# Altium schematic symbol library Potentiometers.SchLib: 13 symbols
Pins are listed as number, name and electrical type; pins without a type are passive.

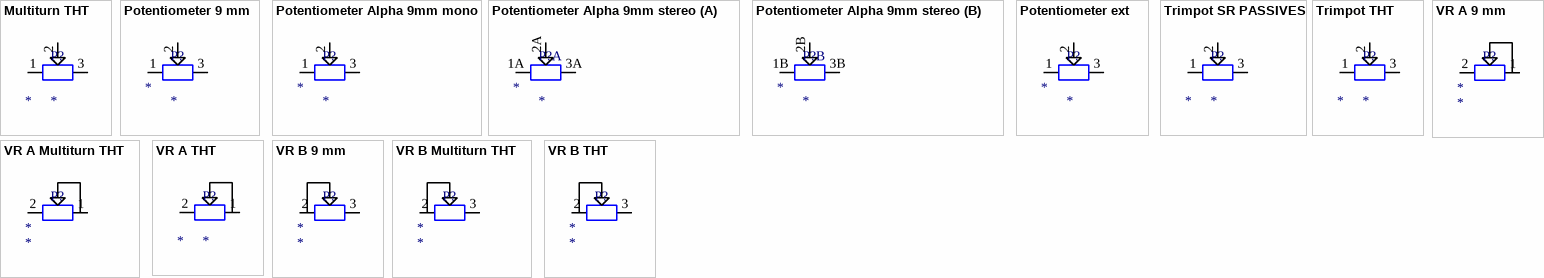
[diagram p0: symbols Multiturn THT to VR B THT]

## Multiturn THT
designator P?, comment Trim  (value not drawn)
PCB Mount Multiturn Trimmer Potentiometer Top Adjustable; Taper: *; Package Type: THT; Type: Potentiometer; Value: *; Parameter: *
footprint Multiturn Potentiometer inline (PCB mount inline multiturn trimmer pot with parameter label)
footprint Multiturn Potentiometer Offset (PCB mount offset multiturn trimmer pot with parameter label)
pins: 1, 2, 3

## Potentiometer 9 mm
designator P?, comment Mono Pot  (value not drawn)
PCB Mount 9mm Mono Potentiometer THT; Taper: *; Package Type: THT; Type: Potentiometer; Value: *; Parameter: *
footprint Alpha_9mm_mono
footprint 9 mm PCB Potentiometer (Generic 9 mm shaft potentiometer PCB mount)
pins: 1, 2, 3

## Potentiometer Alpha 9mm mono
designator P?, comment Mono Pot  (value not drawn)
PCB Mount Alpha 9mm Mono Potentiometer THT; Taper: *; Package Type: THT; Type: Potentiometer; Value: *; Parameter: *
footprint Alpha_9mm_mono
footprint Alpha 9mm mono (Alpha 9 mm mono potentiometer)
pins: 1, 2, 3

## Potentiometer Alpha 9mm stereo
designator P?, comment Stereo Pot  (value not drawn)
PCB Mount Alpha 9mm Stereo Potentiometer THT; Taper: *; Package Type: THT; Type: Potentiometer; Value: *; Parameter: *
footprint Alpha 9mm stereo (Alpha 9 mm stereo potentiometer)
part A pins: 1A, 2A, 3A
part B pins: 1B, 2B, 3B

## Potentiometer ext
designator P?, comment Ext Pot  (value not drawn)
External Potentiometer Pinout; Taper: *; Package Type: THT; Type: Potentiometer; Parameter: *; Value: *
footprint External Potentiometer (Pads for output potentiometers)
pins: 1, 2, 3

## Trimpot SR PASSIVES
designator P?, comment Trim  (value not drawn)
SR PASSIVES PCB Mount Trimmer Potentiometer Top Adjustable; Taper: *; Package Type: THT; Type: Potentiometer; Parameter: *; Value: *
footprint SR PASSIVES Trimmer Pot (SR PASSIVES PCB mount trimmer pot with parameter label)
pins: 1, 2, 3

## Trimpot THT
designator P?, comment Trim  (value not drawn)
PCB Mount Trimmer Potentiometer Top Adjustable; Taper: *; Package Type: THT; Type: Potentiometer; Value: *; Parameter: *
footprint THT Trimmer Pot (PCB Mount Trimmer Potentiometer Top Adjustable)
pins: 1, 2, 3

## VR A 9 mm
designator P?, comment VR  (value not drawn)
PCB Mount 9mm Mono Potentiometer THT as Variable Resistor Clockwise Increase; Taper: *; Package Type: THT; Type: Potentiometer; Parameter: *; Value: *
footprint 9 mm PCB Potentiometer (Generic 9 mm shaft potentiometer PCB mount)
footprint Multiturn Potentiometer Offset (PCB mount offset multiturn trimmer pot with parameter label)
pins: 1, 2

## VR A Multiturn THT
designator P?, comment VR  (value not drawn)
PCB Mount Multiturn Trimmer Potentiometer Top Adjustable as Variable Resistor Clockwise Increase; Taper: *; Package Type: THT; Type: Potentiometer; Parameter: *; Value: *
footprint Multiturn Potentiometer inline (PCB mount inline multiturn trimmer pot with parameter label)
footprint Multiturn Potentiometer Offset (PCB mount offset multiturn trimmer pot with parameter label)
pins: 1, 2

## VR A THT
designator P?, comment VR  (value not drawn)
PCB Mount Trimmer Potentiometer Top Adjustable as Variable Resistor Clockwise Increase; Taper: *; Package Type: THT; Type: Potentiometer; Parameter: *; Value: *
footprint THT Trimmer Pot (PCB Mount Trimmer Potentiometer Top Adjustable)
pins: 1, 2

## VR B 9 mm
designator P?, comment VR  (value not drawn)
PCB Mount 9mm Mono Potentiometer THT as Variable Resistor Clockwise Decrease; Taper: *; Package Type: THT; Type: Potentiometer; Parameter: *; Value: *
footprint 9 mm PCB Potentiometer (Generic 9 mm shaft potentiometer PCB mount)
footprint Multiturn Potentiometer Offset (PCB mount offset multiturn trimmer pot with parameter label)
pins: 2, 3

## VR B Multiturn THT
designator P?, comment VR  (value not drawn)
PCB Mount Multiturn Trimmer Potentiometer Top Adjustable as Variable Resistor Clockwise Decrease; Taper: *; Package Type: THT; Type: Potentiometer; Parameter: *; Value: *
footprint Multiturn Potentiometer inline (PCB mount inline multiturn trimmer pot with parameter label)
footprint Multiturn Potentiometer Offset (PCB mount offset multiturn trimmer pot with parameter label)
pins: 2, 3

## VR B THT
designator P?, comment VR  (value not drawn)
PCB Mount Trimmer Potentiometer Top Adjustable as Variable Resistor Clockwise Decrease; Taper: *; Package Type: THT; Type: Potentiometer; Parameter: *; Value: *
footprint THT Trimmer Pot (PCB Mount Trimmer Potentiometer Top Adjustable)
footprint Multiturn Potentiometer Offset (PCB mount offset multiturn trimmer pot with parameter label)
pins: 2, 3